# Altium integrated library dc-dc-converter.IntLib: 23 symbols
Pins are listed as number, name and electrical type; pins without a type are passive.

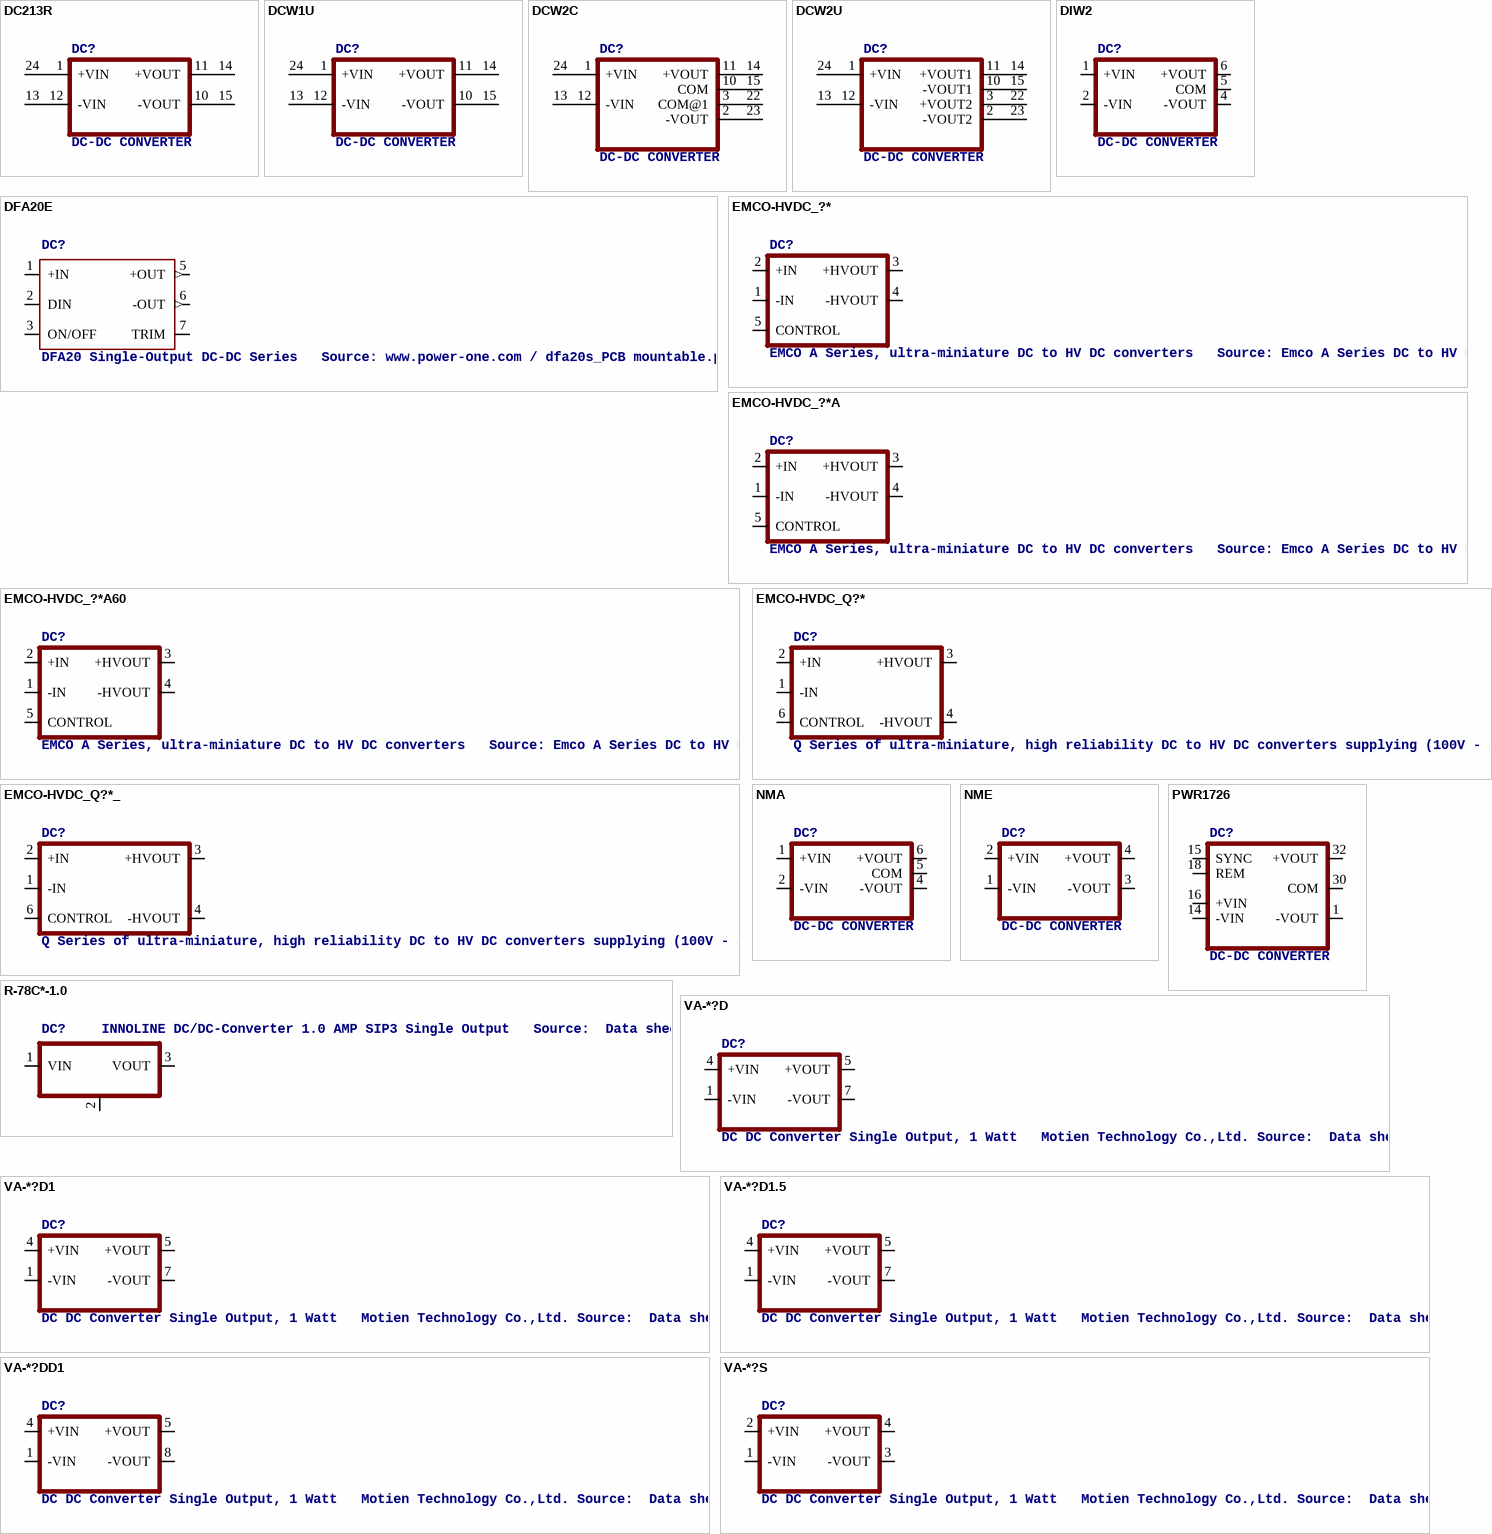
[diagram p0: symbols DC213R to VA-*?S]

## DC213R
designator DC?, comment DC-DC CONVERTER
OC_FARNELL: unknown; OC_NEWARK: unknown
footprint CMK
pins: 1 +VIN, 10 -VOUT, 11 +VOUT, 12 -VIN, 13 -VIN1, 14 +VOUT1, 15 -VOUT1, 24 +VIN1

## DCW1U
designator DC?, comment DC-DC CONVERTER
OC_FARNELL: unknown; OC_NEWARK: unknown
footprint DCW
pins: 1 +VIN, 10 -VOUT, 11 +VOUT, 12 -VIN, 13 -VIN1, 14 +VOUT1, 15 -VOUT1, 24 +VIN1

## DCW2C
designator DC?, comment DC-DC CONVERTER
OC_FARNELL: unknown; OC_NEWARK: unknown
footprint DCW
pins: 1 +VIN, 2 -VOUT, 3 COM@1, 10 COM, 11 +VOUT, 12 -VIN, 13 -VIN1, 14 +VOUT1, 15 COM1, 22 COM2, 23 -VOUT1, 24 +VIN1

## DCW2U
designator DC?, comment DC-DC CONVERTER
OC_FARNELL: unknown; OC_NEWARK: unknown
footprint DCW
pins: 1 +VIN, 2 -VOUT2, 3 +VOUT2, 10 -VOUT1, 11 +VOUT1, 12 -VIN, 13 -VIN1, 14 +VOUT@1, 15 -VOUT@1, 22 +VOUT@2, 23 -VOUT@2, 24 +VIN1

## DFA20E
designator DC?, comment DFA20 Single-Output DC-DC Series   Source: www.power-one.com / dfa20s_PCB mountable.pdf
OC_FARNELL: unknown; OC_NEWARK: unknown
footprint DFA20
pins: 1 +IN, 2 DIN, 3 ON/OFF, 5 +OUT (out), 6 -OUT (out), 7 TRIM

## DIW2
designator DC?, comment DC-DC CONVERTER
OC_FARNELL: unknown; OC_NEWARK: unknown
footprint DIW2
pins: 1 +VIN, 2 -VIN, 4 -VOUT, 5 COM, 6 +VOUT

## EMCO-HVDC_?*
designator DC?, comment EMCO A Series, ultra-miniature DC to HV DC converters   Source: Emco A Series DC to HV DC Converters.pdf
footprint EMCO-A_100-2000V
pins: 1 -IN, 2 +IN, 3 +HVOUT, 4 -HVOUT, 5 CONTROL

## EMCO-HVDC_?*A
designator DC?, comment EMCO A Series, ultra-miniature DC to HV DC converters   Source: Emco A Series DC to HV DC Converters.pdf
footprint EMCO-A_3000-5000V
pins: 1 -IN, 2 +IN, 3 +HVOUT, 4 -HVOUT, 5 CONTROL

## EMCO-HVDC_?*A60
designator DC?, comment EMCO A Series, ultra-miniature DC to HV DC converters   Source: Emco A Series DC to HV DC Converters.pdf
footprint EMCO-A_6000V
pins: 1 -IN, 2 +IN, 3 +HVOUT, 4 -HVOUT, 5 CONTROL

## EMCO-HVDC_Q?*
designator DC?, comment Q Series of ultra-miniature, high reliability DC to HV DC converters supplying (100V - 5,000V)   Source: Emco Q Series DC to HV DC Converters.pdf
footprint EMCO-HVDC-Q_100-2000V
pins: 1 -IN, 2 +IN, 3 +HVOUT, 4 -HVOUT, 6 CONTROL

## EMCO-HVDC_Q?*_
designator DC?, comment Q Series of ultra-miniature, high reliability DC to HV DC converters supplying (100V - 5,000V)   Source: Emco Q Series DC to HV DC Converters.pdf
footprint EMCO-HVDC-Q_2500-5000V
pins: 1 -IN, 2 +IN, 3 +HVOUT, 4 -HVOUT, 6 CONTROL

## NMA
designator DC?, comment DC-DC CONVERTER
MPN: NMA0515SC; MF: C & D TECHNOLOGIES, INC; OC_FARNELL: 1021434; OC_NEWARK: 61K3064
footprint NMA
pins: 1 +VIN, 2 -VIN, 4 -VOUT, 5 COM, 6 +VOUT

## NME
designator DC?, comment DC-DC CONVERTER
MPN: NME1205D; MF: C & D TECHNOLOGIES, INC; OC_FARNELL: 1021466; OC_NEWARK: 98B8198
footprint NME
pins: 1 -VIN, 2 +VIN, 3 -VOUT, 4 +VOUT

## PWR1726
designator DC?, comment DC-DC CONVERTER
MPN: PWR1726AC; OC_FARNELL: 1694799; OC_NEWARK: 87K4872
footprint PWR1726
pins: 1 -VOUT, 14 -VIN, 15 SYNC, 16 +VIN, 18 REM, 30 COM, 32 +VOUT

## R-78C*-1.0
designator DC?, comment INNOLINE DC/DC-Converter 1.0 AMP SIP3 Single Output   Source:  Data sheet
footprint SIP3
pins: 1 VIN, 2 GND, 3 VOUT

## VA-*?D
designator DC?, comment DC DC Converter Single Output, 1 Watt   Motien Technology Co.,Ltd. Source:  Data sheet
OC_FARNELL: unknown; OC_NEWARK: unknown
footprint 8DIL-4
pins: 1 -VIN, 4 +VIN, 5 +VOUT, 7 -VOUT

## VA-*?D1
designator DC?, comment DC DC Converter Single Output, 1 Watt   Motien Technology Co.,Ltd. Source:  Data sheet
OC_FARNELL: unknown; OC_NEWARK: unknown
footprint 8DIL-4
pins: 1 -VIN, 4 +VIN, 5 +VOUT, 7 -VOUT

## VA-*?D1.5
designator DC?, comment DC DC Converter Single Output, 1 Watt   Motien Technology Co.,Ltd. Source:  Data sheet
OC_FARNELL: unknown; OC_NEWARK: unknown
footprint 8DIL-6
pins: 1 -VIN, 4 +VIN, 5 +VOUT, 7 -VOUT

## VA-*?DD1
designator DC?, comment DC DC Converter Single Output, 1 Watt   Motien Technology Co.,Ltd. Source:  Data sheet
OC_FARNELL: unknown; OC_NEWARK: unknown
footprint 8DIL-6
pins: 1 -VIN, 4 +VIN, 5 +VOUT, 8 -VOUT

## VA-*?S
designator DC?, comment DC DC Converter Single Output, 1 Watt   Motien Technology Co.,Ltd. Source:  Data sheet
OC_FARNELL: unknown; OC_NEWARK: unknown
footprint 4SIL
pins: 1 -VIN, 2 +VIN, 3 -VOUT, 4 +VOUT

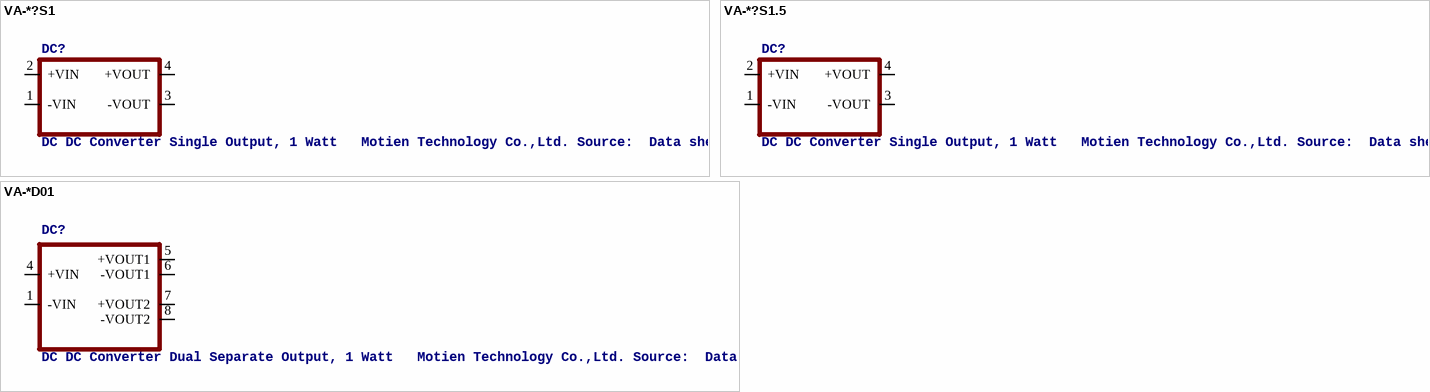
[diagram p1: symbols VA-*?S1 to VA-*D01]

## VA-*?S1
designator DC?, comment DC DC Converter Single Output, 1 Watt   Motien Technology Co.,Ltd. Source:  Data sheet
OC_FARNELL: unknown; OC_NEWARK: unknown
footprint 4SIL
pins: 1 -VIN, 2 +VIN, 3 -VOUT, 4 +VOUT

## VA-*?S1.5
designator DC?, comment DC DC Converter Single Output, 1 Watt   Motien Technology Co.,Ltd. Source:  Data sheet
OC_FARNELL: unknown; OC_NEWARK: unknown
footprint 4SIL
pins: 1 -VIN, 2 +VIN, 3 -VOUT, 4 +VOUT

## VA-*D01
designator DC?, comment DC DC Converter Dual Separate Output, 1 Watt   Motien Technology Co.,Ltd. Source:  Data sheet
OC_FARNELL: unknown; OC_NEWARK: unknown
footprint 8DIL-6
pins: 1 -VIN, 4 +VIN, 5 +VOUT1, 6 -VOUT1, 7 +VOUT2, 8 -VOUT2